# EAGLE library part TXB0102 (library Eagle_CAD_parts)
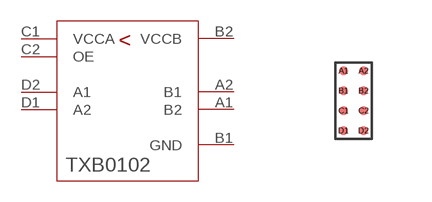
[diagram p56: symbol with the pads of 8-DSBGA; footprint 8-DSBGA]

Designator prefix U

## TXB0102_YZP (DIGIKEY_PART_NUMBER: 296-21961-1-ND; MANUFACTURER_PART_NUMBER: TXB0102YZPR)  [8-DSBGA]
A1  B2
A2  B1
B1  GND  pwr
B2  VCCB  pwr
C1  VCCA  pwr
C2  OE  out
D1  A2
D2  A1

## Footprint 8-DSBGA (pad centres in mm)
smd 0.23 x 0.23: A1 -0.25,0.75; A2 0.25,0.75; B1 -0.25,0.25; B2 0.25,0.25; C1 -0.25,-0.25; C2 0.25,-0.25; D1 -0.25,-0.75; D2 0.25,-0.75